# EAGLE library part WIRELESS_STICK (library HeltecWirelessStick)
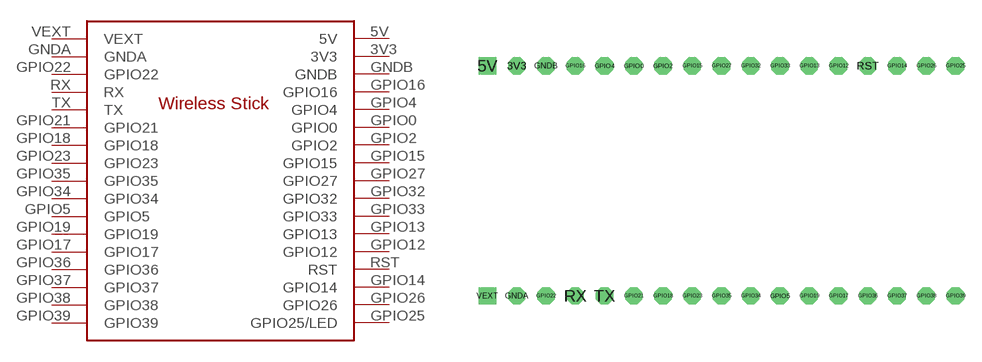
[diagram p0: symbol with the pads of WIRELESSSTICK; footprint WIRELESSSTICK]

Designator prefix -

## WIRELESS_STICK  [WIRELESSSTICK]
3V3  3V3
5V  5V
GNDA  GNDA
GNDB  GNDB
GPIO0  GPIO0
GPIO2  GPIO2
GPIO4  GPIO4
GPIO5  GPIO5
GPIO12  GPIO12
GPIO13  GPIO13
GPIO14  GPIO14
GPIO15  GPIO15
GPIO16  GPIO16
GPIO17  GPIO17
GPIO18  GPIO18
GPIO19  GPIO19
GPIO21  GPIO21
GPIO22  GPIO22
GPIO23  GPIO23
GPIO25  GPIO25/LED
GPIO26  GPIO26
GPIO27  GPIO27
GPIO32  GPIO32
GPIO33  GPIO33
GPIO34  GPIO34
GPIO35  GPIO35
GPIO36  GPIO36
GPIO37  GPIO37
GPIO38  GPIO38
GPIO39  GPIO39
RST  RST
RX  RX
TX  TX
VEXT  VEXT

## Footprint WIRELESSSTICK (pad centres in mm)
drill 1 octagon: 3V3 2.54,20; GNDA 2.54,0; GNDB 5.08,20; GPIO0 12.7,20; GPIO2 15.24,20; GPIO4 10.16,20; GPIO5 25.4,0; GPIO12 30.48,20; GPIO13 27.94,20; GPIO14 35.56,20; GPIO15 17.78,20; GPIO16 7.62,20; GPIO17 30.48,0; GPIO18 15.24,0; GPIO19 27.94,0; GPIO21 12.7,0; GPIO22 5.08,0; GPIO23 17.78,0; GPIO25 40.64,20; GPIO26 38.1,20; GPIO27 20.32,20; GPIO32 22.86,20; GPIO33 25.4,20; GPIO34 22.86,0; GPIO35 20.32,0; GPIO36 33.02,0; GPIO37 35.56,0; GPIO38 38.1,0; GPIO39 40.64,0; RST 33.02,20; RX 7.62,0; TX 10.16,0
drill 1 square: 5V 0,20; VEXT 0,0